# Altium footprint library PcbLib1.PcbLib: 2 footprints
Each footprint in its own frame and in the unit in brackets; x right, y up, seen from the top. Pads: shape width x height; smd on the part's side, far side on the other; paste and mask are expansions set on the pad; w line width, h text height; cw(c..) or ccw(c..) is an arc to the next point about the centre after c.
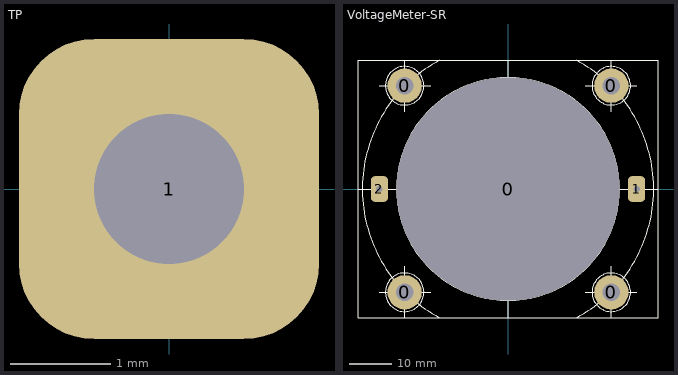
[diagram p0: the footprints below, top view; thin cyan lines are the x and y axes]

## TP [mm]
pads (1):
  rrect50% 3x3 hole 1.5: 1(0,0)

## VoltageMeter-SR [mm]
pads (7):
  round 8 hole 4: 0(-24.1,-24.1) 0(-24.1,24.1) 0(24.1,-24.1) 0(24.1,24.1)
  round 52 hole 52 unplated: 0(0,0)
  rrect50% 4x6 hole 1.5: 1(30,0) 2(-30,0)
Top Overlay:
  circle w0.254: c0,0 r26
  circle w0.254: c-24.1,24.1 r4.5
  circle w0.254: c24.1,24.1 r4.5
  circle w0.254: c24.1,-24.1 r4.5
  circle w0.254: c-24.1,-24.1 r4.5
  lines w0.254: -35,0 -26,0 ; -30,-24.1 -18,-24.1 ; -30,24.1 -18,24.1 ; -24.1,-30 -24.1,-18 ; -24.1,18 -24.1,30 ; -16,-30 cw(c0,0) -16,30 ; -5,0 5,0 ; 0,-26 0,-30 ; 0,-4.991 0,0 0,5.009 ; 0,26 0,30 ; 16,-30 ccw(c0,0) 16,30 ; 18,-24.1 30,-24.1 ; 18,24.1 30,24.1 ; 24.1,-30 24.1,-18 ; 24.1,18 24.1,30 ; 26,0 35,0 ; 0,-30 35,-30 35,30 -35,30 -35,-30 0,-30